# EAGLE library part RTC-3231 (library FansElectronics-Modul)
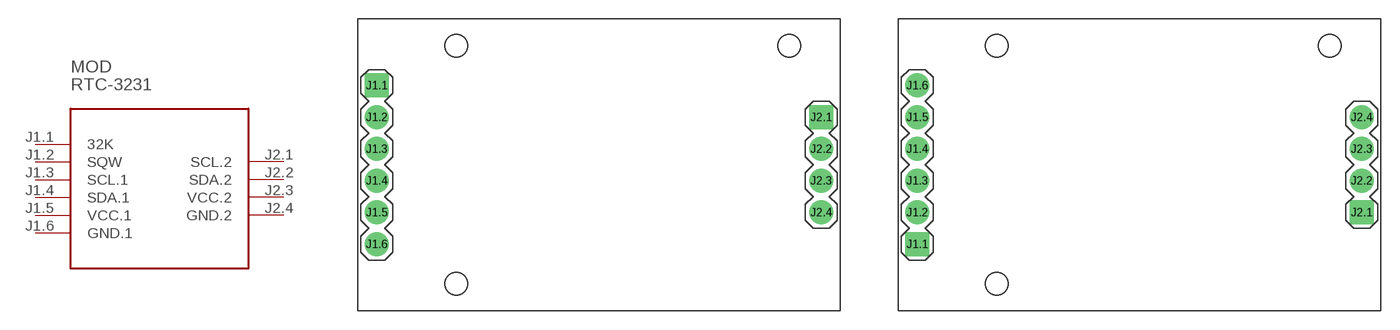
[diagram p10: symbol with the pads of RTC-DS3231; footprints RTC-DS3231, RTC-DS3231-MIRROR]

Designator prefix MOD

## RTC-3231"  [RTC-DS3231]
J1.1  32K
J1.2  SQW
J1.3  SCL.1
J1.4  SDA.1
J1.5  VCC.1  pwr
J1.6  GND.1  pwr
J2.1  SCL.2
J2.2  SDA.2
J2.3  VCC.2  pwr
J2.4  GND.2  pwr

## RTC-3231MIRROR  [RTC-DS3231-MIRROR]
Pads as for RTC-DS3231

## Footprint RTC-DS3231 (pad centres in mm)
drill 1 pad 1.93 square: J1.1 -17.78,6.35; J2.1 17.78,3.81
drill 1 pad 1.93: J1.2 -17.78,3.81; J1.3 -17.78,1.27; J1.4 -17.78,-1.27; J1.5 -17.78,-3.81; J1.6 -17.78,-6.35; J2.2 17.78,1.27; J2.3 17.78,-1.27; J2.4 17.78,-3.81

## Footprint RTC-DS3231-MIRROR (pad centres in mm)
drill 1 pad 1.93 square: J1.1 -17.78,-6.35; J2.1 17.78,-3.81
drill 1 pad 1.93: J1.2 -17.78,-3.81; J1.3 -17.78,-1.27; J1.4 -17.78,1.27; J1.5 -17.78,3.81; J1.6 -17.78,6.35; J2.2 17.78,-1.27; J2.3 17.78,1.27; J2.4 17.78,3.81